# EAGLE library part USB_TYPE_C (library USB-TYPE-C-V2)
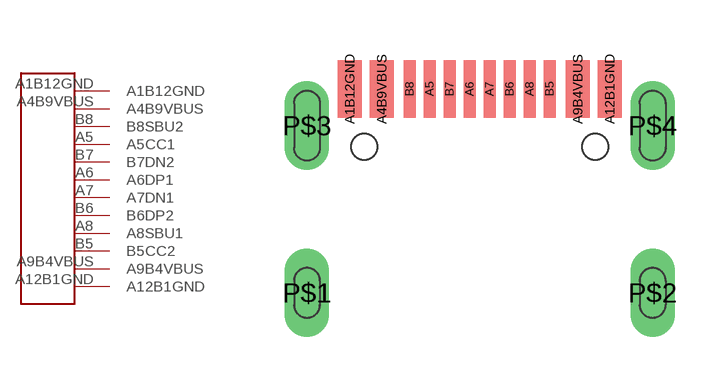
[diagram p0: symbol with the pads of USB_TYPE_C; footprint USB_TYPE_C]

Designator prefix -

## USB_TYPE_C  [USB_TYPE_C]
A1B12GND  A1B12GND
A4B9VBUS  A4B9VBUS
A5  A5CC1
A6  A6DP1
A7  A7DN1
A8  A8SBU1
A9B4VBUS  A9B4VBUS
A12B1GND  A12B1GND
B5  B5CC2
B6  B6DP2
B7  B7DN2
B8  B8SBU2

## Footprint USB_TYPE_C (pad centres in mm)
smd 0.6 x 1.45: A1B12GND -3.25,5.095; A4B9VBUS -2.45,5.095; A9B4VBUS 2.45,5.095; A12B1GND 3.25,5.095
smd 0.3 x 1.45: A5 -1.25,5.095; A6 -0.25,5.095; A7 0.25,5.095; A8 1.25,5.095; B5 1.75,5.095; B6 0.75,5.095; B7 -0.75,5.095; B8 -1.75,5.095
drill 0.6 long: P$1 -4.32,0; P$2 4.32,0
drill 0.6 pad 1 long: P$3 -4.32,4.18; P$4 4.32,4.18
hole 0.65 at -2.89,3.65
hole 0.65 at 2.89,3.65